# Altium footprint library 0603_IND.PcbLib: 10 footprints
Each footprint in its own frame and in the unit in brackets; x right, y up, seen from the top. Pads: shape width x height; smd on the part's side, far side on the other; paste and mask are expansions set on the pad; w line width, h text height; cw(c..) or ccw(c..) is an arc to the next point about the centre after c.
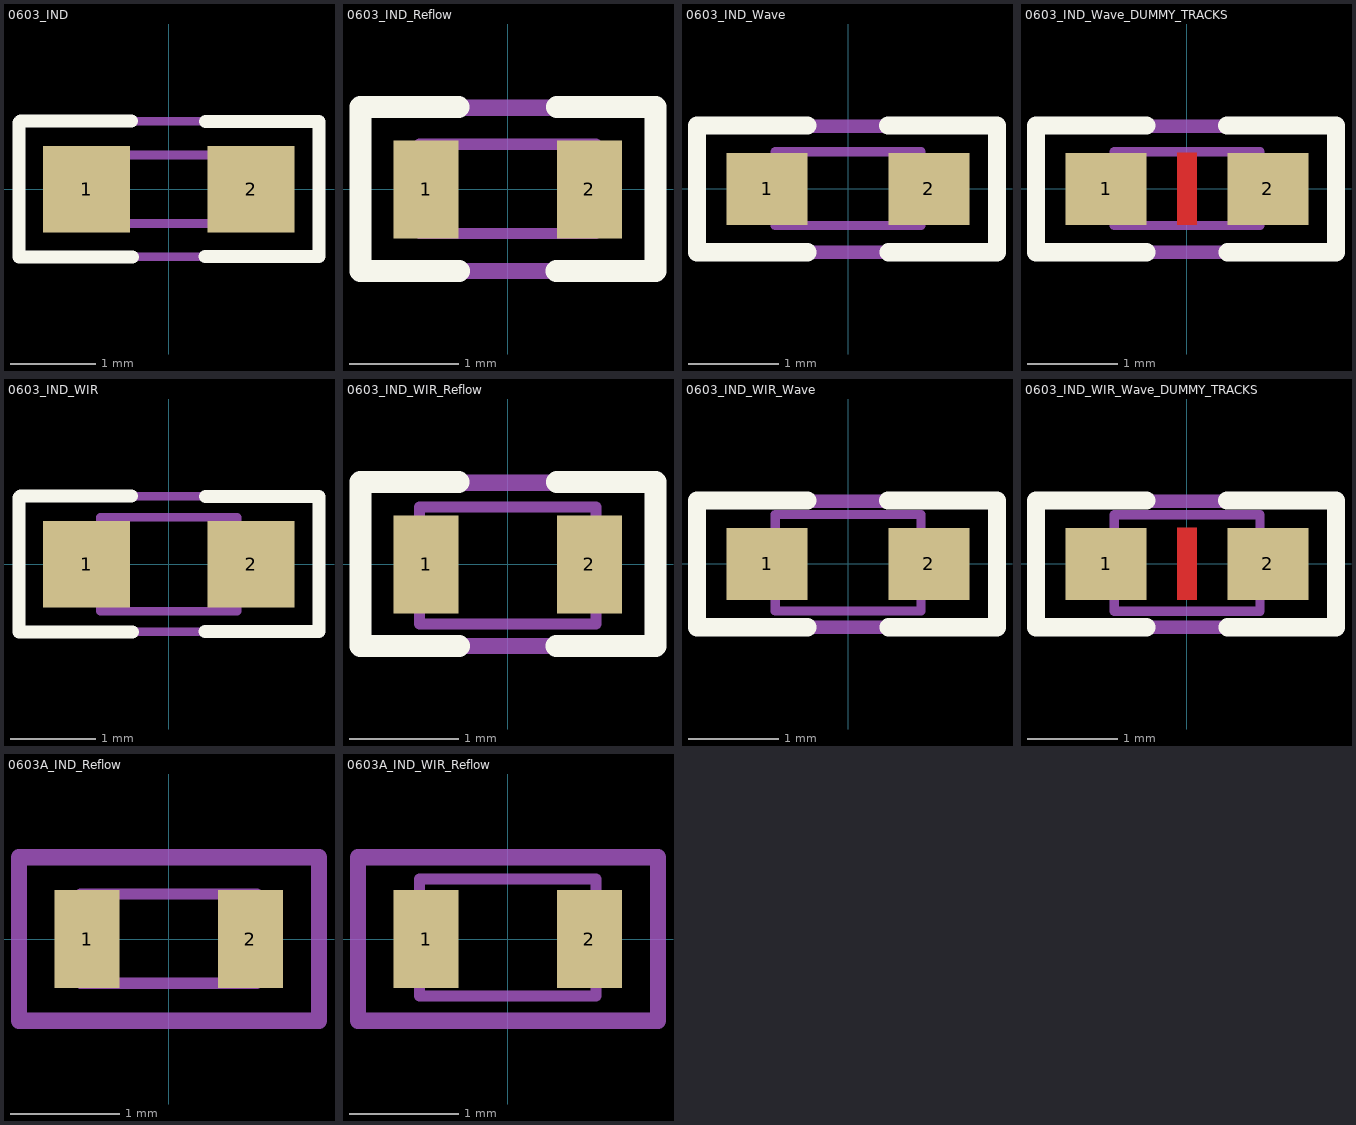
[diagram p0: the footprints below, top view; thin cyan lines are the x and y axes]

## 0603_IND [mil]
pads (2):
  rect 40x40 smd: 1(-37.89,0) 2(37.89,0)
Top Overlay:
  lines w6: -68.99,-31.03 -68.99,30.75 ; -68.9,-31.13 -16.76,-31.13 ; -68.36,31.38 -17.13,31.38 ; 16.59,-30.98 69.1,-30.98 69.1,31.22 16.97,31.22
Top Component Outline:
  lines w4: -31.49,-15.74 31.5,-15.74 31.5,15.75 -31.49,15.75 -31.49,-15.74
Top Assembly:
  lines w3.94: -68.9,-31.13 69.1,-31.13 69.1,31.38 -68.9,31.38 -68.9,-31.13
  text ".Designator" at -59.06,-8.02 h39.37
3D body "User Library-INDC1608X___.step": height 39.37, standoff 0, extent -31.49,-15.74 31.5,15.75

## 0603_IND_Reflow [mm]
pads (2):
  rect 0.6x0.9 smd paste-0.05: 1(-0.75,0) 2(0.75,0)
Top Overlay:
  lines w0.203: -0.451,0.756 -1.352,0.756 -1.352,-0.75 -0.446,-0.75 ; 0.447,-0.75 1.358,-0.75 1.358,0.756 0.452,0.756
Top Component Outline:
  lines w0.102: -0.81,-0.406 -0.81,0.414 0.81,0.414 0.81,-0.406 -0.81,-0.406
Top Assembly:
  lines w0.15: -1.375,-0.75 1.38,-0.75 1.38,0.75 -1.375,0.75 -1.375,-0.75
  text ".Designator" at -0.81,-0.221 h1
3D body "User Library-INDC1608X___.step": height 1, standoff 0, extent -0.8,-0.4 0.8,0.4

## 0603_IND_Wave [mm]
pads (2):
  rect 0.9x0.8 smd paste-0.05: 1(-0.9,0) 2(0.9,0)
Top Overlay:
  lines w0.203: -1.68,-0.706 -1.68,0.705 -0.454,0.705 ; -1.68,-0.705 -0.452,-0.705 ; 0.449,0.705 1.657,0.705 1.657,-0.705 0.452,-0.705
Top Component Outline:
  lines w0.102: -0.81,-0.406 -0.81,0.414 0.81,0.414 0.81,-0.406 -0.81,-0.406
Top Assembly:
  lines w0.15: -1.675,-0.705 1.65,-0.705 1.65,0.7 -1.675,0.7 -1.675,-0.705
  text ".Designator" at -1.3,-0.204 h1
3D body "User Library-INDC1608X___.step": height 1, standoff 0, extent -0.8,-0.4 0.8,0.4

## 0603_IND_Wave_DUMMY_TRACKS [mm]
pads (2):
  rect 0.9x0.8 smd paste-0.05: 1(-0.9,0) 2(0.9,0)
Top Layer:
  rectangle: -0.112,-0.403 0.113,0.403
Top Overlay:
  lines w0.203: -1.68,-0.706 -1.68,0.705 -0.454,0.705 ; -1.68,-0.705 -0.451,-0.705 ; 0.449,0.705 1.658,0.705 1.658,-0.705 0.453,-0.705
Top Component Outline:
  lines w0.102: -0.81,-0.406 0.81,-0.406 0.81,0.414 -0.81,0.414 -0.81,-0.406
Top Assembly:
  lines w0.15: -1.675,-0.705 -1.675,0.7 1.65,0.7 1.65,-0.705 -1.675,-0.705
  text ".Designator" at -0.9,-0.206 h1
3D body "User Library-INDC1608X___.step": height 1, standoff 0, extent -0.798,-0.402 0.802,0.398

## 0603_IND_WIR [mil]
pads (2):
  rect 40x40 smd: 1(-37.89,0) 2(37.89,0)
Top Overlay:
  lines w6: -68.99,-31.03 -68.99,30.75 ; -68.9,-31.13 -16.76,-31.13 ; -68.36,31.38 -17.13,31.38 ; 16.59,-30.98 69.1,-30.98 69.1,31.22 16.97,31.22
Top Component Outline:
  lines w4: -31.49,-21.65 -31.49,21.65 31.5,21.65 31.5,-21.65 -31.49,-21.65
Top Assembly:
  lines w3.94: -68.9,-31.13 -68.9,31.38 69.1,31.38 69.1,-31.13 -68.9,-31.13
  text ".Designator" at -59.06,-8.02 h39.37
3D body "inductor_0603f-047k-yy.stp": height 37.4, standoff 0, extent -33.46,-21.65 33.47,21.66

## 0603_IND_WIR_Reflow [mm]
pads (2):
  rect 0.6x0.9 smd paste-0.05: 1(-0.75,0) 2(0.75,0)
Top Overlay:
  lines w0.203: -0.451,0.756 -1.352,0.756 -1.352,-0.75 -0.446,-0.75 ; 0.447,-0.75 1.358,-0.75 1.358,0.756 0.452,0.756
Top Component Outline:
  lines w0.102: -0.81,-0.55 0.81,-0.55 0.81,0.525 -0.81,0.525 -0.81,-0.55
Top Assembly:
  lines w0.15: -1.375,-0.75 -1.375,0.75 1.38,0.75 1.38,-0.75 -1.375,-0.75
  text ".Designator" at -0.81,-0.221 h1
3D body "inductor_0603f-047k-yy.stp": height 0.95, standoff 0, extent -0.85,-0.55 0.85,0.55

## 0603_IND_WIR_Wave [mm]
pads (2):
  rect 0.9x0.8 smd paste-0.05: 1(-0.9,0) 2(0.9,0)
Top Overlay:
  lines w0.203: -1.68,-0.706 -1.68,0.705 -0.454,0.705 ; -1.68,-0.705 -0.452,-0.705 ; 0.449,0.705 1.657,0.705 1.657,-0.705 0.452,-0.705
Top Component Outline:
  lines w0.102: -0.81,-0.523 0.81,-0.523 0.81,0.55 -0.81,0.55 -0.81,-0.523
Top Assembly:
  lines w0.15: -1.675,-0.705 -1.675,0.7 1.65,0.7 1.65,-0.705 -1.675,-0.705
  text ".Designator" at -1.3,-0.204 h1
3D body "inductor_0603f-047k-yy.stp": height 0.95, standoff 0, extent -0.85,-0.55 0.85,0.55

## 0603_IND_WIR_Wave_DUMMY_TRACKS [mm]
pads (2):
  rect 0.9x0.8 smd paste-0.05: 1(-0.9,0) 2(0.9,0)
Top Layer:
  rectangle: -0.112,-0.403 0.113,0.403
Top Overlay:
  lines w0.203: -1.68,-0.706 -1.68,0.705 -0.454,0.705 ; -1.68,-0.705 -0.451,-0.705 ; 0.449,0.705 1.658,0.705 1.658,-0.705 0.453,-0.705
Top Component Outline:
  lines w0.102: -0.81,-0.526 0.81,-0.526 0.81,0.547 -0.81,0.547 -0.81,-0.526
Top Assembly:
  lines w0.15: -1.675,-0.705 -1.675,0.7 1.65,0.7 1.65,-0.705 -1.675,-0.705
  text ".Designator" at -0.9,-0.206 h1
3D body "inductor_0603f-047k-yy.stp": height 0.95, standoff 0, extent -0.852,-0.55 0.848,0.55

## 0603A_IND_Reflow [mm]
pads (2):
  rect 0.6x0.9 smd paste-0.05: 1(-0.75,0) 2(0.75,0)
Top Component Outline:
  lines w0.102: -0.81,-0.406 -0.81,0.414 0.81,0.414 0.81,-0.406 -0.81,-0.406
Top Assembly:
  lines w0.15: -1.375,-0.75 1.38,-0.75 1.38,0.75 -1.375,0.75 -1.375,-0.75
  text ".Designator" at -0.9,-0.206 h1
3D body "User Library-INDC1608X___.step": height 1, standoff 0, extent -0.8,-0.4 0.8,0.4

## 0603A_IND_WIR_Reflow [mm]
pads (2):
  rect 0.6x0.9 smd paste-0.05: 1(-0.75,0) 2(0.75,0)
Top Component Outline:
  lines w0.102: -0.81,-0.525 -0.81,0.55 0.81,0.55 0.81,-0.525 -0.81,-0.525
Top Assembly:
  lines w0.15: -1.375,-0.75 1.38,-0.75 1.38,0.75 -1.375,0.75 -1.375,-0.75
  text ".Designator" at -0.9,-0.206 h1
3D body "inductor_0603f-047k-yy.stp": height 0.95, standoff 0, extent -0.85,-0.55 0.85,0.55